# Altium footprint library tanekonsat_lib_pcb.PcbLib: 10 footprints
Each footprint in its own frame and in the unit in brackets; x right, y up, seen from the top. Pads: shape width x height; smd on the part's side, far side on the other; paste and mask are expansions set on the pad; w line width, h text height; cw(c..) or ccw(c..) is an arc to the next point about the centre after c.
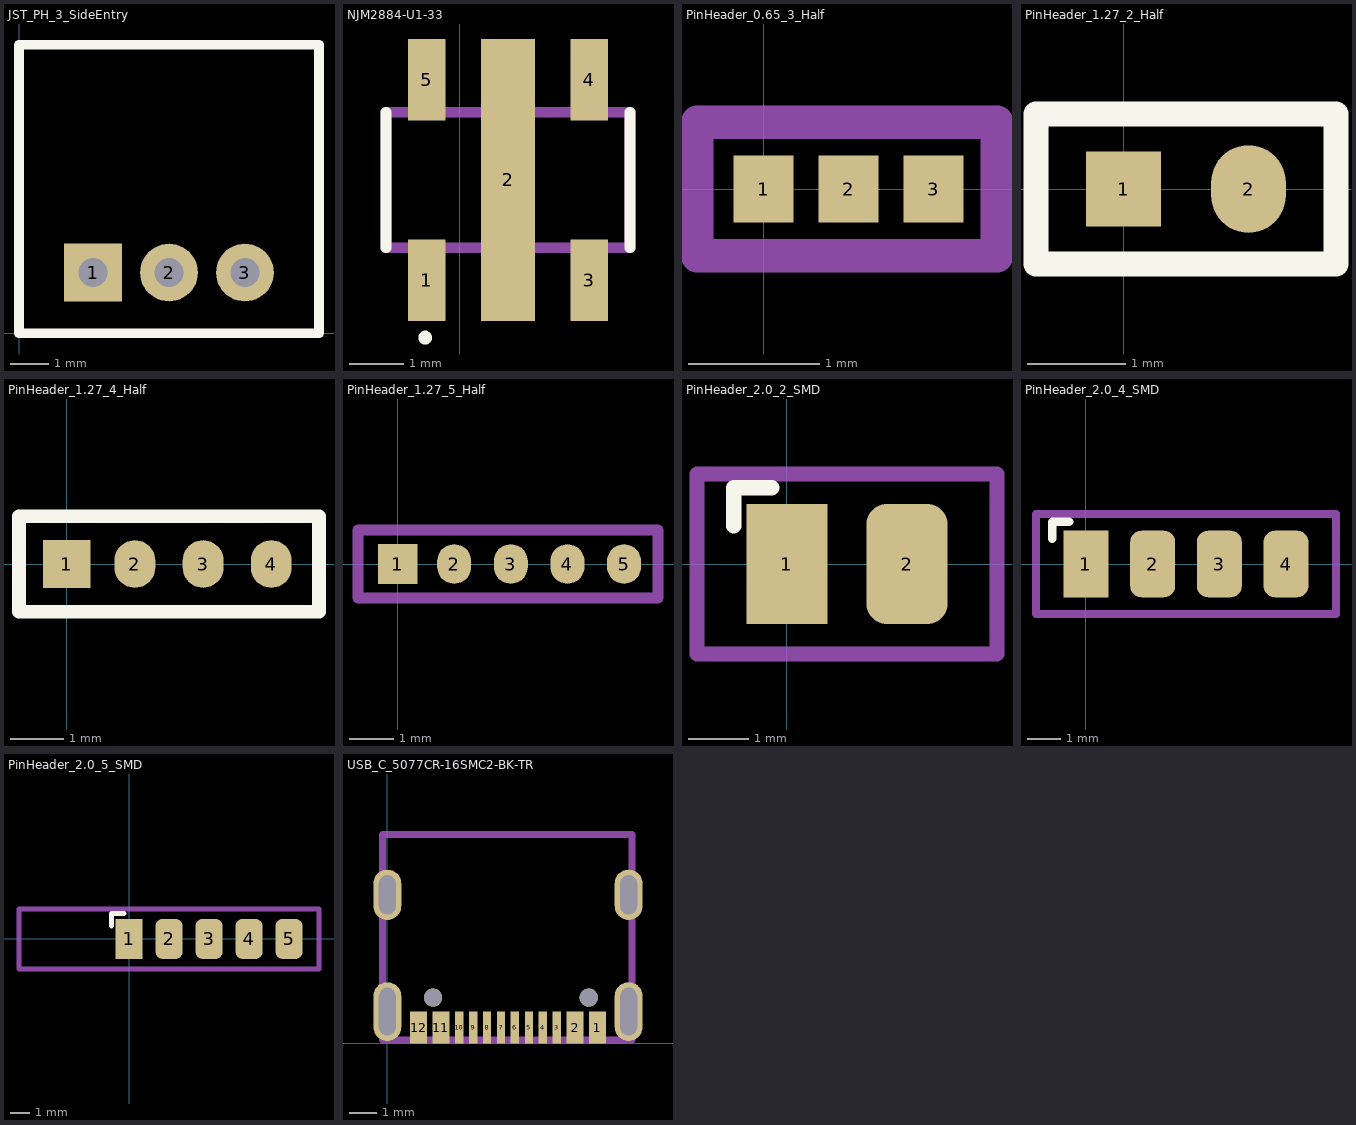
[diagram p0: the footprints below, top view; thin cyan lines are the x and y axes]

## JST_PH_3_SideEntry [mil]
pads (3):
  rect 60x60 hole 30: 1(76.77,62.99)
  round 60 hole 30: 2(155.51,62.99) 3(234.25,62.99)
Top Overlay:
  lines w10: 0,0 311.02,0 311.02,299.21 0,299.21 0,0
Mechanical 1:
  text "PH-3" at 50,170 h60

## NJM2884-U1-33 [mm]
pads (5):
  rect 0.7x1.5 smd: 1(-0.611,-17.471) 3(2.389,-17.471) 4(2.389,-13.771) 5(-0.611,-13.771)
  rect 1x5.207 smd: 2(0.889,-15.621)
Top Overlay:
  circle w0.2: c-0.64,-18.531 r0.026
  lines w0.2: -1.361,-16.871 -1.361,-14.371 ; 3.139,-16.871 3.139,-14.371
Mechanical 13:
  lines w0.2: -1.361,-16.871 3.139,-16.871 3.139,-14.371 -1.361,-14.371 -1.361,-16.871
3D body "NJM2884U1-33-TE1.stp": height 1.5, standoff 0, extent -1.452,-17.871 3.048,-13.371

## PinHeader_0.65_3_Half [mil]
pads (3):
  rect 18x20 smd: 1(0,0) 2(25.5,0) 3(51,0)
Mechanical 1:
  lines w10: -20,-20 70,-20 70,20 -20,20 -20,-20

## PinHeader_1.27_2_Half [mil]
pads (2):
  rect 30x30 smd: 1(0,0)
  oval 30x35 smd: 2(50,0)
Top Overlay:
  lines w10: -35,-30 85,-30 85,30 -35,30 -35,-30

## PinHeader_1.27_4_Half [mil]
pads (4):
  rect 35x35 smd: 1(0,0)
  oval 30x35 smd: 2(50,0) 3(100,0) 4(150,0)
Top Overlay:
  lines w10: -35,-35 185,-35 185,35 -35,35 -35,-35

## PinHeader_1.27_5_Half [mil]
pads (5):
  rect 35x35 smd: 1(0,0)
  oval 30x35 smd: 2(50,0) 3(100,0) 4(150,0) 5(200,0)
Mechanical 1:
  lines w10: -35,-30 230,-30 230,30 -35,30 -35,-30

## PinHeader_2.0_2_SMD [mm]
pads (2):
  rect 1.35x2 smd: 1(0,0)
  rrect50% 1.35x2 smd: 2(2,0)
Top Overlay:
  lines w0.254: -0.889,0.635 -0.889,1.27 -0.254,1.27
Mechanical 1:
  lines w0.254: -1.5,-1.5 3.5,-1.5 3.5,1.5 -1.5,1.5 -1.5,-1.5

## PinHeader_2.0_4_SMD [mm]
pads (4):
  rect 1.35x2 smd: 1(0,0)
  rrect50% 1.35x2 smd: 2(2,0) 3(4,0) 4(6,0)
Top Overlay:
  lines w0.254: -1.016,0.762 -1.016,1.27 -0.508,1.27
Mechanical 1:
  lines w0.254: -1.5,-1.5 7.5,-1.5 7.5,1.5 -1.5,1.5 -1.5,-1.5

## PinHeader_2.0_5_SMD [mm]
pads (5):
  rect 1.35x2 smd: 1(0,0)
  rrect50% 1.35x2 smd: 2(2,0) 3(4,0) 4(6,0) 5(8,0)
Top Overlay:
  lines w0.254: -0.889,0.635 -0.889,1.27 -0.254,1.27
Mechanical 1:
  lines w0.254: -5.513,-1.513 9.5,-1.513 9.5,1.5 -5.513,1.5 -5.513,-1.513

## USB_C_5077CR-16SMC2-BK-TR [mm]
pads (18):
  rect 0.6x1.14 smd: 1(7.52,0.57) 2(6.72,0.57) 11(1.92,0.57) 12(1.12,0.57)
  rect 0.3x1.14 smd: 3(6.07,0.57) 4(5.57,0.57) 5(5.07,0.57) 6(4.562,0.57) 7(4.07,0.57) 8(3.57,0.57) 9(3.07,0.57) 10(2.57,0.57)
  oval 1x2.1 hole 0.6 slot 1.7 at 90 deg: ""(0,1.14) ""(8.64,1.14)
  oval 1x1.8 hole 0.6 slot 1.4 at 90 deg: ""(0,5.32) ""(8.64,5.32)
  round 0.65 hole 0.65: ""(1.64,1.64) ""(7.21,1.64)
Mechanical 1:
  lines w0.254: -0.177,0.127 8.763,0.127 8.763,7.477 -0.177,7.477 -0.177,0.127